# Altium footprint library SJ3502SMTTR.PcbLib: 1 footprints
Each footprint in its own frame and in the unit in brackets; x right, y up, seen from the top. Pads: shape width x height; smd on the part's side, far side on the other; paste and mask are expansions set on the pad; w line width, h text height; cw(c..) or ccw(c..) is an arc to the next point about the centre after c.
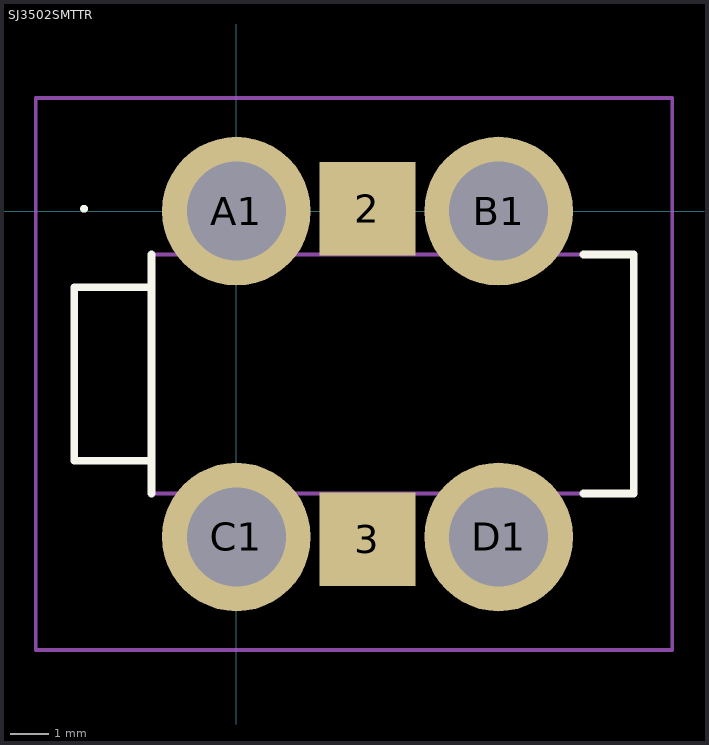
[diagram p0: the footprint, top view; thin cyan lines are the x and y axes]

## SJ3502SMTTR [mm]
pads (6):
  rect 2.5x2.43 smd: 2(3.4,0.06) 3(3.4,-8.51)
  round 3.855 hole 2.57: A1(0,0) B1(6.8,0) C1(0,-8.45) D1(6.8,-8.45)
Top Overlay:
  lines w0.1: -4,0.06 -4,0.06 ; -4,0.06 ccw(c-3.95,0.06) -3.9,0.06 ; -4,0.06 cw(c-3.95,0.06) -3.9,0.06 ; -3.9,0.06 -3.9,0.06
  lines w0.2: -2.2,-7.325 -2.2,-1.125 ; -2.2,-6.475 -4.2,-6.475 -4.2,-1.975 -2.2,-1.975 ; 9,-7.325 10.3,-7.325 10.3,-1.125 9,-1.125
Mechanical 15:
  lines w0.1: -2.2,-6.475 -4.2,-6.475 -4.2,-1.975 -2.2,-1.975 ; -2.2,-7.325 10.3,-7.325 10.3,-1.125 -2.2,-1.125 -2.2,-7.325
Mechanical 20:
  lines w0.1: -5.2,-11.377 11.3,-11.377 11.3,2.928 -5.2,2.928 -5.2,-11.377